# Altium footprint library ATmega328P U.PcbLib: 1 footprints
Each footprint in its own frame and in the unit in brackets; x right, y up, seen from the top. Pads: shape width x height; smd on the part's side, far side on the other; paste and mask are expansions set on the pad; w line width, h text height; cw(c..) or ccw(c..) is an arc to the next point about the centre after c.
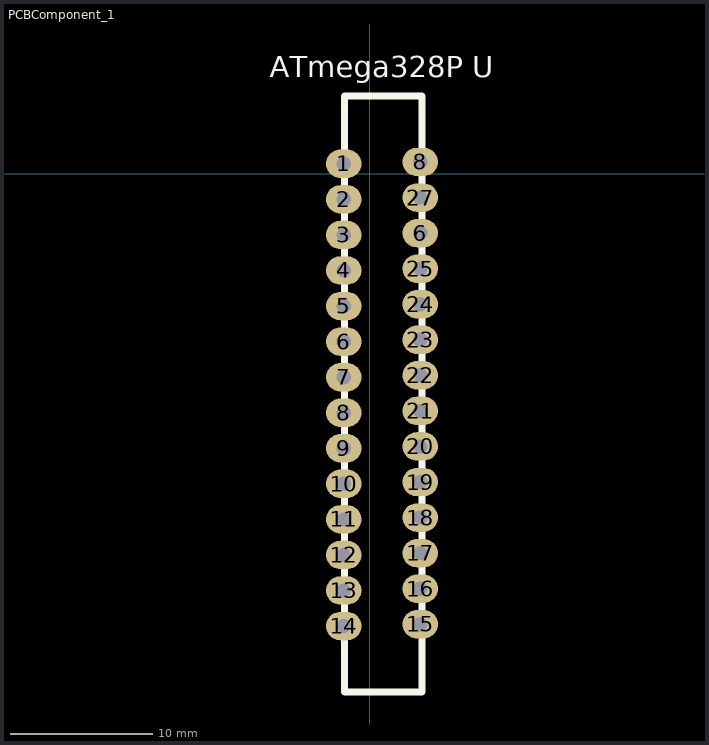
[diagram p0: the footprint, top view; thin cyan lines are the x and y axes]

## PCBComponent_1 [mm]
pads (28):
  oval 2.5x2 hole 1: 1(-1.829,0.7) 2(-1.829,-1.8) 3(-1.829,-4.3) 4(-1.829,-6.8) 5(-1.829,-9.3) 6(-1.829,-11.8) 6(3.552,-4.173) 7(-1.829,-14.3) 8(-1.829,-16.8) 8(3.552,0.827) 9(-1.829,-19.3) 10(-1.829,-21.8) 11(-1.829,-24.3) 12(-1.829,-26.8) 13(-1.829,-29.3) 14(-1.829,-31.8) 15(3.552,-31.673) 16(3.552,-29.173) 17(3.552,-26.673) 18(3.552,-24.173) 19(3.552,-21.673) 20(3.552,-19.173) 21(3.552,-16.673) 22(3.552,-14.173) 23(3.552,-11.673) 24(3.552,-9.173) 25(3.552,-6.673) 27(3.552,-1.673)
Top Overlay:
  lines w0.5: 3.522,-36.449 -1.778,-36.449 -1.778,5.461 -0.147,5.461 2.353,5.461 3.603,5.461 ; 3.683,-36.449 3.683,5.461
  text "ATmega328P U" at -7.017,6.793 h1.5